# Altium footprint library ATMEL.PcbLib: 2 footprints
Each footprint in its own frame and in the unit in brackets; x right, y up, seen from the top. Pads: shape width x height; smd on the part's side, far side on the other; paste and mask are expansions set on the pad; w line width, h text height; cw(c..) or ccw(c..) is an arc to the next point about the centre after c.
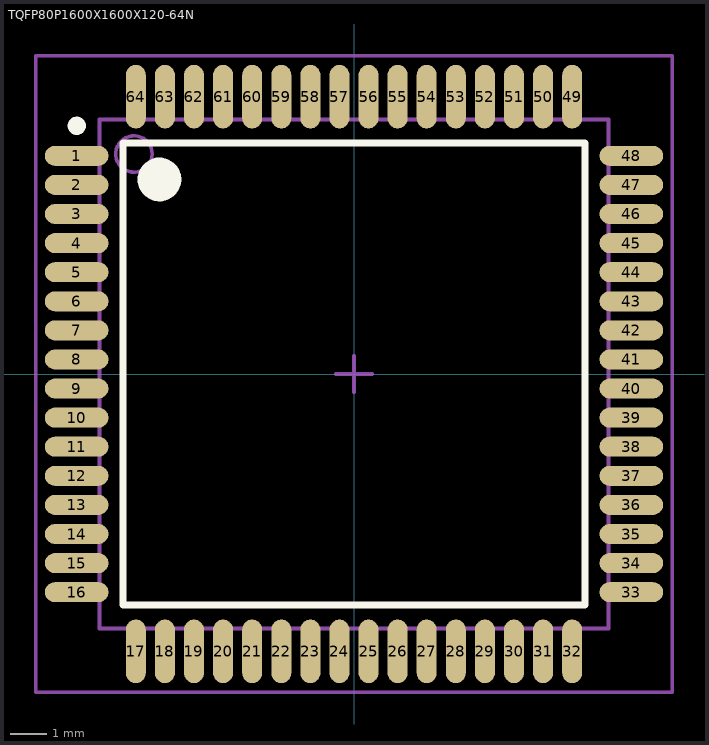
[diagram p0: the footprints below, top view; thin cyan lines are the x and y axes]

## TQFP80P1600X1600X120-64N [mm] "TQFP, 64-Leads, Body 16.3x16.3mm (max), Pitch 0.80mm, IPC Medium Density"
height 1.2
pads (64):
  oval 1.75x0.55 smd: 1(-7.625,6) 2(-7.625,5.2) 3(-7.625,4.4) 4(-7.625,3.6) 5(-7.625,2.8) 6(-7.625,2) 7(-7.625,1.2) 8(-7.625,0.4) 9(-7.625,-0.4) 10(-7.625,-1.2) 11(-7.625,-2) 12(-7.625,-2.8) 13(-7.625,-3.6) 14(-7.625,-4.4) 15(-7.625,-5.2) 16(-7.625,-6) 33(7.625,-6) 34(7.625,-5.2) 35(7.625,-4.4) 36(7.625,-3.6) 37(7.625,-2.8) 38(7.625,-2) 39(7.625,-1.2) 40(7.625,-0.4) 41(7.625,0.4) 42(7.625,1.2) 43(7.625,2) 44(7.625,2.8) 45(7.625,3.6) 46(7.625,4.4) 47(7.625,5.2) 48(7.625,6)
  oval 0.55x1.75 smd: 17(-6,-7.625) 18(-5.2,-7.625) 19(-4.4,-7.625) 20(-3.6,-7.625) 21(-2.8,-7.625) 22(-2,-7.625) 23(-1.2,-7.625) 24(-0.4,-7.625) 25(0.4,-7.625) 26(1.2,-7.625) 27(2,-7.625) 28(2.8,-7.625) 29(3.6,-7.625) 30(4.4,-7.625) 31(5.2,-7.625) 32(6,-7.625) 49(6,7.625) 50(5.2,7.625) 51(4.4,7.625) 52(3.6,7.625) 53(2.8,7.625) 54(2,7.625) 55(1.2,7.625) 56(0.4,7.625) 57(-0.4,7.625) 58(-1.2,7.625) 59(-2,7.625) 60(-2.8,7.625) 61(-3.6,7.625) 62(-4.4,7.625) 63(-5.2,7.625) 64(-6,7.625)
Top Overlay:
  circle w0.25: c-7.625,6.825 r0.125
  circle w0.6: c-5.35,5.35 r0.3
  lines w0.2: -6.35,-6.35 -6.35,6.35 6.35,6.35 6.35,-6.35 -6.35,-6.35
Mechanical 13:
  circle w0.1: c-6.05,6.05 r0.5
  lines w0.1: -7,-7 -7,7 7,7 7,-7 -7,-7
Mechanical 15:
  lines w0.1: -0.5,0 0.5,0 ; 0,-0.5 0,0.5 ; -8.75,-8.75 -8.75,8.75 8.75,8.75 8.75,-8.75 -8.75,-8.75
3D body: height 1.2, standoff 0.2, extent -7,-7 7,7

## TSQFP50P1600X1600X120-64N [mm] "TSQFP, 64-Leads, Body 16.3x16.3mm (max), Pitch 0.50mm, IPC Medium Density"
height 1.2